# Altium schematic symbol library LM1117IMPX-3.3_NOPB.SchLib: 5 symbols
Pins are listed as number, name and electrical type; pins without a type are passive.

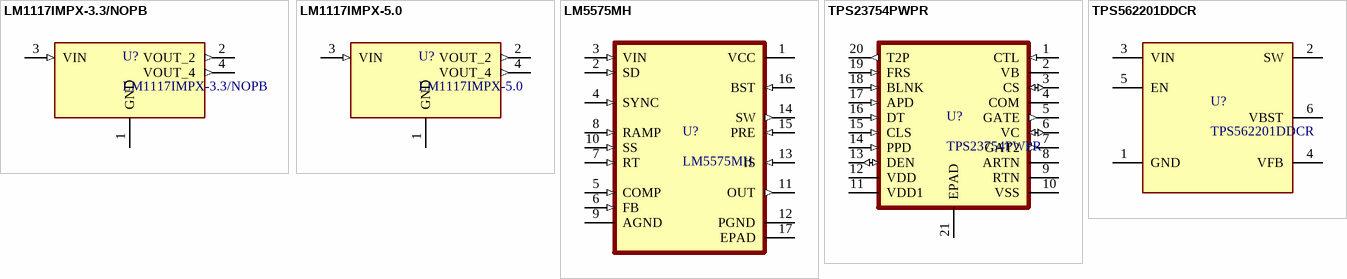
[diagram p0: symbols LM1117IMPX-3.3/NOPB to TPS562201DDCR]

## LM1117IMPX-3.3/NOPB
designator U?
800-mA 15-V linear voltage regulator 4-SOT-223 -40 to 125; Manufacturer: Texas Instruments; Price: None; Manufacturer Part Number: LM1117IMPX-3.3/NOPB; Value: *; Availability: Good; Package: SOT-223-4 Texas Instruments; Vendor: *; Vendor Part Number: *
footprint VREG_LM1117IMPX-3.3/NOPB
pins: 1 GND (power), 2 VOUT_2 (out), 3 VIN (in), 4 VOUT_4 (out)

## LM1117IMPX-5.0
designator U?
Linear Voltage Regulator IC Positive Fixed 1 Output 800mA SOT-223-4; Manufacturer: Texas Instruments; Manufacturer Part Number: LM1117IMPX-5.0/NOPB; Package: SOT-223-3; Vendor: *; Vendor Part Number: *
footprint VREG_LM1117IMPX-3.3/NOPB
pins: 1 GND (power), 2 VOUT_2 (out), 3 VIN (in), 4 VOUT_4 (out)

## LM5575MH
designator U?
6V to 75V, 1.5A Wide Vin Step-Down Regulator; Manufacturer: Texas Instruments; Manufacturer Part Number: LM5575MH/NOPB; Package: 16-HTSSOP
footprint 16-HTSSOP
pins: 1 VCC (power), 2 SD (in), 3 VIN (in), 4 SYNC (in), 5 COMP (in), 6 FB (in), 7 RT (in), 8 RAMP (in), 9 AGND (power), 10 SS (in), 11 OUT (out), 12 PGND (power), 13 IS (in), 14 SW (out), 15 PRE (in), 16 BST (in), 17 EPAD (power)

## TPS23754PWPR
designator U?
IEEE 802.3at, high efficiency, PoE interface and DC/DC controller; Manufacturer: Texas Instruments; Manufacturer Part Number: TPS23754PWPR; Package: TSSOP-20-EP
footprint 20-HTSSOP-EP
pins: 1 CTL (in), 2 VB, 3 CS (io), 4 COM, 5 GATE (out), 6 VC (io), 7 GAT2 (out), 8 ARTN, 9 RTN, 10 VSS (power), 11 VDD1 (power), 12 VDD (power), 13 DEN (io), 14 PPD (in), 15 CLS (in), 16 DT (in), 17 APD (in), 18 BLNK (in), 19 FRS (in), 20 T2P (out), 21 EPAD

## TPS562201DDCR
designator U?
4.5 V to 17 V input, 2 A output, synchronous step-down converter in Eco-mode; Manufacturer: Texas Instruments; Manufacturer Part Number: TPS562201DDCR; Package: SOT-23-6; Vendor: *; Vendor Part Number: *
footprint SOT_23_6_TPS562201
pins: 1 GND, 2 SW, 3 VIN, 4 VFB, 5 EN, 6 VBST